# Altium footprint library RESC4924X055.PcbLib: 3 footprints
Each footprint in its own frame and in the unit in brackets; x right, y up, seen from the top. Pads: shape width x height; smd on the part's side, far side on the other; paste and mask are expansions set on the pad; w line width, h text height; cw(c..) or ccw(c..) is an arc to the next point about the centre after c.
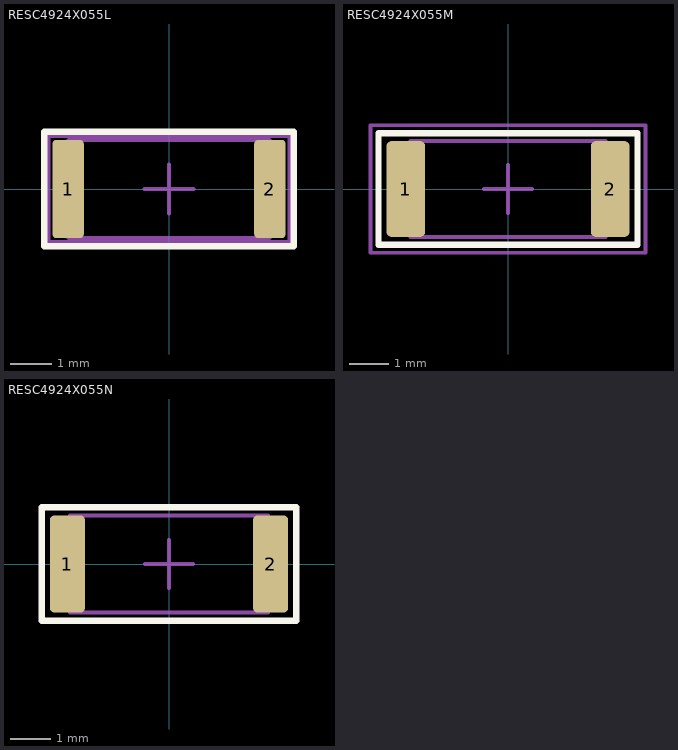
[diagram p0: the footprints below, top view; thin cyan lines are the x and y axes]

## RESC4924X055L [mm] "Resistors, Chip"
height 0.65
pads (2):
  rrect25% 0.77x2.4 smd: 1(-2.465,0) 2(2.465,0)
Top Overlay:
  lines w0.16: -3.05,-1.4 3.05,-1.4 3.05,1.4 -3.05,1.4 -3.05,-1.4
Top Component Center:
  lines w0.1: -0.6,0 0.6,0 ; 0,-0.6 0,0.6
Top Courtyard:
  lines w0.1: -2.95,-1.3 2.95,-1.3 2.95,1.3 -2.95,1.3 -2.95,-1.3
Top Assembly:
  lines w0.1: -2.45,-1.2 2.45,-1.2 2.45,1.2 -2.45,1.2 -2.45,-1.2
  text ".Designator" at 0,0 h1
3D body "RESC4924X055L.STEP": height 0.55, standoff 0, extent -2.45,-1.2 2.45,1.2

## RESC4924X055M [mm] "Resistors, Chip"
height 0.65
pads (2):
  rrect25% 0.97x2.4 smd: 1(-2.565,0) 2(2.565,0)
Top Overlay:
  lines w0.16: -3.25,-1.4 3.25,-1.4 3.25,1.4 -3.25,1.4 -3.25,-1.4
Top Component Center:
  lines w0.1: -0.6,0 0.6,0 ; 0,-0.6 0,0.6
Top Courtyard:
  lines w0.1: -3.45,-1.6 3.45,-1.6 3.45,1.6 -3.45,1.6 -3.45,-1.6
Top Assembly:
  lines w0.1: -2.45,-1.2 2.45,-1.2 2.45,1.2 -2.45,1.2 -2.45,-1.2
  text ".Designator" at 0,0 h1
3D body "RESC4924X055M.STEP": height 0.55, standoff 0, extent -2.45,-1.2 2.45,1.2

## RESC4924X055N [mm] "Resistors, Chip"
height 0.65
pads (2):
  rrect25% 0.87x2.4 smd: 1(-2.515,0) 2(2.515,0)
Top Overlay:
  lines w0.16: -3.15,-1.4 3.15,-1.4 3.15,1.4 -3.15,1.4 -3.15,-1.4
Top Component Center:
  lines w0.1: -0.6,0 0.6,0 ; 0,-0.6 0,0.6
Top Courtyard:
  lines w0.1: -3.15,-1.4 3.15,-1.4 3.15,1.4 -3.15,1.4 -3.15,-1.4
Top Assembly:
  lines w0.1: -2.45,-1.2 2.45,-1.2 2.45,1.2 -2.45,1.2 -2.45,-1.2
  text ".Designator" at 0,0 h1
3D body "RESC4924X055N.STEP": height 0.55, standoff 0, extent -2.45,-1.2 2.45,1.2